# EAGLE library part HEADER-3X8 (library pixhawk2)
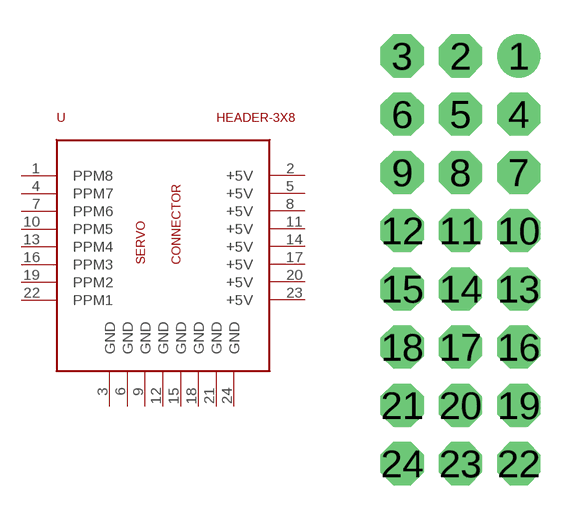
[diagram p19: symbol with the pads of 3X8RA; footprint 3X8RA]

Designator prefix -

## HEADER-3X8SERVO  [3X8RA]
1  PPM8
2  +5V
3  GND
4  PPM7
5  +5V
6  GND
7  PPM6
8  +5V
9  GND
10  PPM5
11  +5V
12  GND
13  PPM4
14  +5V
15  GND
16  PPM3
17  +5V
18  GND
19  PPM2
20  +5V
21  GND
22  PPM1
23  +5V
24  GND

## Footprint 3X8RA (pad centres in mm)
drill 1.016 pad 1.88: 1 3.81,8.89
drill 1.016 pad 1.88 octagon: 2 1.27,8.89; 3 -1.27,8.89; 4 3.81,6.35; 5 1.27,6.35; 6 -1.27,6.35; 7 3.81,3.81; 8 1.27,3.81; 9 -1.27,3.81; 10 3.81,1.27; 11 1.27,1.27; 12 -1.27,1.27; 13 3.81,-1.27; 14 1.27,-1.27; 15 -1.27,-1.27; 16 3.81,-3.81; 17 1.27,-3.81; 18 -1.27,-3.81; 19 3.81,-6.35; 20 1.27,-6.35; 21 -1.27,-6.35; 22 3.81,-8.89; 23 1.27,-8.89; 24 -1.27,-8.89